# EAGLE library part FC41D (library FC41D)
Check availability <https://pricing.snapeda.com/parts/FC41D/Quectel/view-part?ref=eda>
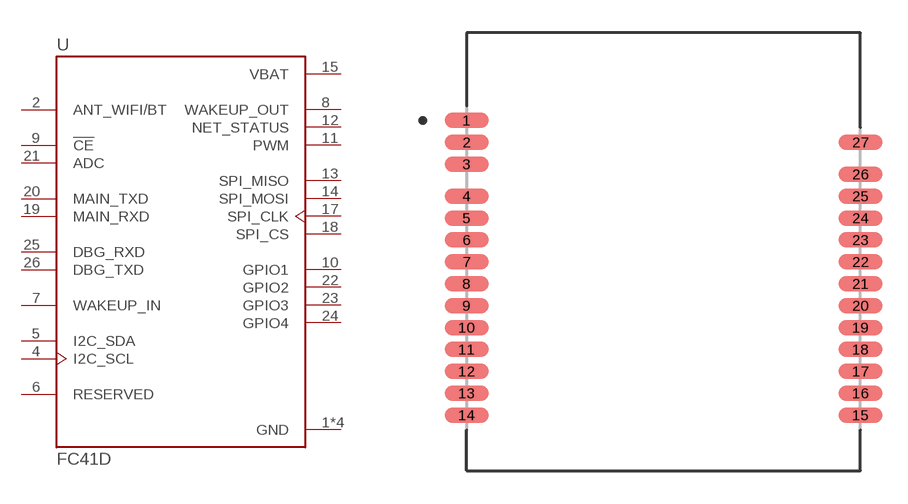
[diagram p0: symbol with the pads of XCVR_FC41D; footprint XCVR_FC41D]

Designator prefix U

## FC41D (Availability: Not in stock; Check_prices: https://www.snapeda.com/parts/FC41D/Quectel/view-part/?ref=eda; Description: Wi-Fi & Bluetooth module; Max. data rate of 72Mbps; LCC form factor; 20mm 18mm 2.6mm; Operating temperature range of -40C to +85C.; MF: Quectel; MP: FC41D; Package: Package; Price: None; SnapEDA_Link: https://www.snapeda.com/parts/FC41D/Quectel/view-part/?ref=snap)  [XCVR_FC41D]
1  GND  pwr
2  ANT_WIFI/BT
3  GND  pwr
4  I2C_SCL  out
5  I2C_SDA
6  RESERVED  nc
7  WAKEUP_IN  in
8  WAKEUP_OUT  out
9  !CE  in
10  GPIO1
11  PWM  out
12  NET_STATUS  out
13  SPI_MISO
14  SPI_MOSI
15  VBAT  pwr
16  GND  pwr
17  SPI_CLK
18  SPI_CS
19  MAIN_RXD  in
20  MAIN_TXD  out
21  ADC  in
22  GPIO2
23  GPIO3
24  GPIO4
25  DBG_RXD  in
26  DBG_TXD  out
27  GND  pwr

## Footprint XCVR_FC41D (pad centres in mm)
smd 2 x 0.7: 1 -9,6; 2 -9,5; 3 -9,4; 4 -9,2.54; 5 -9,1.54; 6 -9,0.54; 7 -9,-0.46; 8 -9,-1.46; 9 -9,-2.46; 10 -9,-3.46; 11 -9,-4.46; 12 -9,-5.46; 13 -9,-6.46; 14 -9,-7.46; 15 9,-7.46; 16 9,-6.46; 17 9,-5.46; 18 9,-4.46; 19 9,-3.46; 20 9,-2.46; 21 9,-1.46; 22 9,-0.46; 23 9,0.54; 24 9,1.54; 25 9,2.54; 26 9,3.54; 27 9,5